# Altium schematic symbol library Schlib1.SchLib: 19 symbols
Pins are listed as number, name and electrical type; pins without a type are passive.

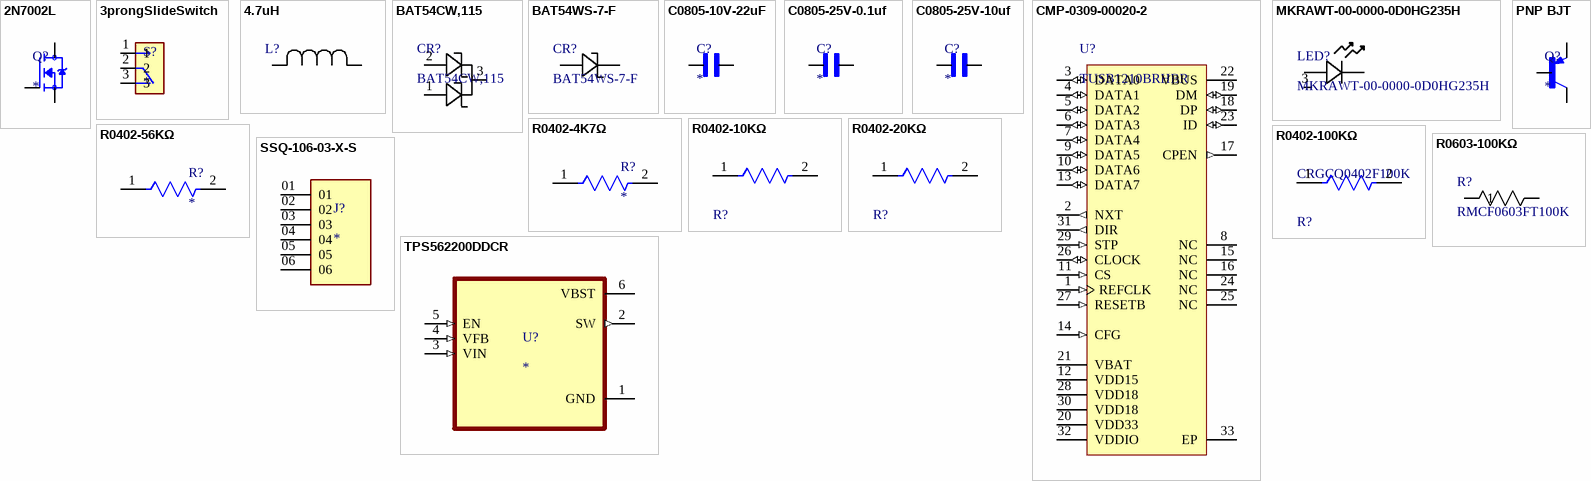
[diagram p0: symbols 2N7002L to TPS562200DDCR]

## 2N7002L
designator Q?
MOSFET,N-Ch,VDSS 60VDC,RDS(ON) 7.5 Ohms,ID+/-115mA,SOT-23 (TO-236),PD 225mW,-55C | ON Semiconductor 2N7002L; MF: onsemi; SnapEDA_Link: https://www.snapeda.com/parts/2N7002L/Onsemi/view-part/?ref=snap; Package: SOT-23-3 ON Semiconductor; Value: *; MP: 2N7002L; Check_prices: https://www.snapeda.com/parts/2N7002L/Onsemi/view-part/?ref=eda
footprint SOT95P240X111-3N
pins: 1 G, 2 S, 3 D

## 3prongSlideSwitch
designator S?
SLIDE SWITCH SPDT T/H ON-ON BBM; MP: OS102011MS2QN1; MF: C&K; SnapEDA_Link: https://www.snapeda.com/parts/OS102011MS2QN1/C%2526K/view-part/?ref=snap; Purchase-URL: https://pricing.snapeda.com/search/part/OS102011MS2QN1/?ref=eda; Value: *; Digi-Key_Part_Number: CKN9565-ND; Check_prices: https://www.snapeda.com/parts/OS102011MS2QN1/C%2526K/view-part/?ref=eda; Package: None
footprint SW_OS102011MS2QN1
pins: 1, 2, 3

## 4.7uH
designator L?
Description; Manufacturer_Name: Bourns Electronics; Manufacturer_Part_Number: SRN6045-4R7Y; Copyright: Copyright (C) 2025 Ultra Librarian. All rights reserved.
pins: 1, 2

## BAT54CW,115
designator CR?
Description; Manufacturer_Name: Nexperia; Copyright: Copyright (C) 2025 Ultra Librarian. All rights reserved.; Manufacturer_Part_Number: BAT54CW,115
footprint DIODE_SOT323_BAT54CW_2P2X1P35_NEX
pins: 1 A1, 2 A2, 3 K1

## BAT54WS-7-F
designator CR?
Diode, Schottky, 30 V, 0.2 A, SOD-323; Manufacturer_Name: Diodes Inc; Copyright: Copyright (C) 2025 Ultra Librarian. All rights reserved.; Manufacturer_Part_Number: BAT54WS-7-F
footprint SOD323_DIO
pins: 1, 2

## C0805-10V-22uF
designator C?
MF: {'manufacturer': u'Taiyo Yuden'}; MP: MSASL219LB5226MTNA01; Package: None; Price: None; Value: *; Availability: Unavailable
footprint CAPC2012X95N
pins: 1, 2

## C0805-25V-0.1uf
designator C?
MF: {'manufacturer': u'Taiyo Yuden'}; MP: KGM21NR71E104KT; Package: None; Price: None; Value: *; Availability: Unavailable
footprint CAPC2012X95N
pins: 1, 2

## C0805-25V-10uf
designator C?
MF: {'manufacturer': u'Taiyo Yuden'}; MP: MSAST219LB5106KTNA01; Package: None; Price: None; Value: *; Availability: Unavailable
footprint CAPC2012X95N
pins: 1, 2

## CMP-0309-00020-2
designator U?, comment TUSB1210BRHBR
USB 2.0 ULPI Transceiver, High Speed, ULPI, +/-2V, -40 to 85 degC, 32-Pin QFN (RHB), Green (RoHS & no Sb/Br); Manufacturer: Texas Instruments; ESD HBM(kV): +/-2; SubFamily: USB Transceiver; ComponentLink1URL: http://www.ti.com/general/docs/lit/getliterature.tsp?genericPartNumber=TUSB1210&fileType=pdf; PartNumber: TUSB1210BRHBR; Mounting Technology: Surface Mount; ComponentLink2URL: http://www.ti.com/litv/pdf/mpqf130c; ComponentLink2Description: Package Specification; USB Speed: High; Code_JEDEC: MO-220; ComponentLink1Description: Datasheet; PackageVersion: revD, Jun-2011; Eco-Plan: Green (RoHS & no Sb/Br); PackageReference: RHB0032E; PackageDescription: 32-Pin Plastic Quad Flat No-Lead, 5 x 5 mm Body, 0.5 mm Pitch, 3.45 x 3.45 mm Exposed Pad; DatasheetVersion: SLLSE09E
footprint RHB0032E_V (QFN, 32-Leads, Body 5x5mm, Pitch 0.5mm, Thermal Pad 3.45x3.45mm)
pins: 1 REFCLK (in) "VDD33 Reference clock input.Tie to GND when pin 26(CLOCK) is required to be Input mode. Connect to square-wave reference clock of amplitude in the range of 3 V to 3. [see datasheet]", 2 NXT (out) "ULPI NXT output signal", 3 DATA0 (io) "ULPI DATA input/output signal 0 synchronized to CLOCK", 4 DATA1 (io) "ULPI DATA input/output signal 1 synchronized to CLOCK", 5 DATA2 (io) "ULPI DATA input/output signal 2 synchronized to CLOCK", 6 DATA3 (io) "ULPI DATA input/output signal 3 synchronized to CLOCK", 7 DATA4 (io) "ULPI DATA input/output signal 4 synchronized to CLOCK", 8 NC "No connect", 9 DATA5 (io) "ULPI DATA input/output signal 6 synchronized to CLOCK", 10 DATA6 (io) "ULPI DATA input/output signal 6 synchronized to CLOCK", 11 CS (in) "Active-high chip select pin. When low the IC is in power down and ULPIbus is tri-stated. When high normal operation. Tie to VDDIO if unused.", 12 VDD15 (power) "1.5-V internal LDO output. Connect to external filtering capacitor.", 13 DATA7 (io) "ULPI DATA input/output signal 7 synchronized to CLOCK", 14 CFG (in) "REFCLK clock frequency configuration pin. Two frequencies are IO supported: 19.2 MHz when 0, or 26 MHz when 1", 15 NC "No connect", 16 NC "No connect", 17 CPEN (out) "CMOS active-high digital output control of external 5V VBUS supply", 18 DP (io) "DP pin of the USB connector", 19 DM (io) "DM pin of the USB connector", 20 VDD33 (power) "3.3-V internal LDO output. Connect to external filtering capacitor", 21 VBAT (power) "Input supply voltage or battery source", 22 VBUS (power) "VBUS pin of the USB connector", 23 ID (io) "Identification (ID) pin of the USB connector", 24 NC "No connect", 25 NC "No connect", 26 CLOCK (io) "ULPI 60 MHz clock on which ULPI data is synchronized.Two modes are possible:Input Mode: CLOCK defaults as an input. [see datasheet]", 27 RESETB (in) "When low, all digital logic including registers are reset to their default values, and ULPI bus is tri-stated. When high, normal USB operation.", 28 VDD18 (power) "External 1.8-V supply input. Connect to external filtering capacitor.", 29 STP (in) "ULPI STP input signal", 30 VDD18 (power) "External 1.8-V supply input. Connect to external filtering capacitor", 31 DIR (out) "ULPI DIR output signal", 32 VDDIO (power) "External 1.8V supply input for digital I/Os. Connect to external filtering capacitor", 33 EP (power) ""Exposed Thermal pad"

## MKRAWT-00-0000-0D0HG235H
designator LED?
Description; Manufacturer_Name: Cree LED; Copyright: Copyright (C) 2025 Ultra Librarian. All rights reserved.; Manufacturer_Part_Number: MKRAWT-00-0000-0D0HG235H
footprint LED_XLamp_MK-R_CRW
pins: 1, 2, 3 heatDissipation

## PNP BJT
designator Q?
TRANS PNP 40V 0.2A SOT23-3; MF: onsemi; MP: MMBT3906LT1G; SnapEDA_Link: https://www.snapeda.com/parts/MMBT3906LT1G/Onsemi/view-part/?ref=snap; Package: SOT-23-3 ON Semiconductor; Value: *; Check_prices: https://www.snapeda.com/parts/MMBT3906LT1G/Onsemi/view-part/?ref=eda
footprint SOT95P240X111-3N
pins: 1 B, 2 E, 3 C

## R0402-4K7Ω
designator R?
<a href="https://pricing.snapeda.com/parts/RC0402JR-074K7L/Yageo/view-part?ref=eda">Check availability</a>; MF: {'manufacturer': u'YAGEO'}; Package: None; Price: None; Value: *; MP: RC0402JR-074K7L; Availability: Unavailable
footprint FP-CRGCQ0402-IPC_A
pins: 1, 2

## R0402-10KΩ
designator R?
Resistance: 10KΩ; Tolerance: 0.01; Voltage Rating: 50V; Power Rating: 0.0625W; Temperature Coefficient: ±100ppm/°C; Value: 10KΩ; Ambient Temperature Range High: +70°C; Series: CRGCQ; Temperature: -55°C to +155°C; Temperature Range Low: -55°C; ComponentLink2Description: Datasheet; Category: Res; Temperature Range High: +155°C; Automotive: Yes; Device Class L2: Resistors; Height: 0.4mm; Ipc Land Pattern Name: RESC10050X35; Composition: Thick Film; Device Class L1: Passive Components; Device Class L3: Chip SMD Resistors; RoHS: TRUE; Lead Free: Yes
footprint FP-CRGCQ0402-IPC_A
pins: 1, 2

## R0402-20KΩ
designator R?
Resistance: 20KΩ; Tolerance: 0.01; Voltage Rating: 50V; Power Rating: 0.0625W; Temperature Coefficient: ±100ppm/°C; Value: 20KΩ; Ambient Temperature Range High: +70°C; Temperature: -55°C to +155°C; Temperature Range Low: -55°C; ComponentLink2Description: Datasheet; Category: Res; Temperature Range High: +155°C; Automotive: Yes; Device Class L2: Resistors; Height: 0.4mm; Ipc Land Pattern Name: RESC10050X35; Composition: Thick Film; Device Class L1: Passive Components; Device Class L3: Chip SMD Resistors; RoHS: TRUE; Lead Free: Yes
footprint FP-CRGCQ0402-IPC_A
pins: 1, 2

## R0402-56KΩ
designator R?
<a href="https://pricing.snapeda.com/parts/RC0402JR-074K7L/Yageo/view-part?ref=eda">Check availability</a>; MF: {'manufacturer': u'YAGEO'}; MP: ERA-2AEB563X; Package: None; Price: None; Value: *; Availability: Unavailable
footprint FP-CRGCQ0402-IPC_A
pins: 1, 2

## R0402-100KΩ
designator R?, comment CRGCQ0402F100K
CRGCQ0402 100KΩ 1% ±100ppm/°C 50V; Manufacturer: TE Connectivity; Tolerance: 0.01; Power Rating: 0.0625W; Resistance: 100KΩ; Ambient Temperature Range High: +70°C; Series: CRGCQ; Temperature: -55°C to +155°C; Temperature Range Low: -55°C; ComponentLink2Description: Datasheet; Category: Res; Temperature Range High: +155°C; Automotive: Yes; Device Class L2: Resistors; Height: 0.4mm; Ipc Land Pattern Name: RESC10050X35; Voltage Rating: 50V; ComponentLink2URL: https://www.te.com/commerce/DocumentDelivery/DDEController?Action=showdoc&DocId=Data+Sheet%7F1773204-3%7F1%7Fpdf%7FEnglish%7FENG_DS_1773204-3_1.pdf%7F4-2176347-1150; Composition: Thick Film; Device Class L1: Passive Components; Device Class L3: Chip SMD Resistors; RoHS: TRUE; Temperature Coefficient: ±100ppm/°C; Lead Free: Yes; Value: 100KΩ; Manufacturer Part Number: CRGCQ0402F100K; Octopart: https://octopart.com/crgcq0402f100k-te+connectivity-91017930; Package: CRGCQ0402
footprint FP-CRGCQ0402-IPC_A
pins: 1, 2

## R0603-100KΩ
designator R?, comment RMCF0603FT100K
Description; Manufacturer_Name: Stackpole International; Copyright: Copyright (C) 2025 Ultra Librarian. All rights reserved.; Manufacturer_Part_Number: RMCF0603FT100K
footprint STA_RMCF0603_STP
pins: 1, 2

## SSQ-106-03-X-S
designator J?
SSQ - Samtec 2.54mm Square Tail Single Row Socket Strip 8.5mm Profile - Fast Stock; MF: Samtec Inc.; MP: SSQ-106-03-T-S; SnapEDA_Link: https://www.snapeda.com/parts/SSQ-106-03-T-S/Samtec+Inc./view-part/?ref=snap; Package: None; Value: *; Check_prices: https://www.snapeda.com/parts/SSQ-106-03-T-S/Samtec+Inc./view-part/?ref=eda
footprint SAMTEC_SSQ-106-03-X-S
pins: 01, 02, 03, 04, 05, 06

## TPS562200DDCR
designator U?
17 V Input, 2A Synchronous Step-Down Regulator in SOT-23 with Advanced Eco-modeâ„¢; MF: Texas Instruments; MP: TPS562200DDCR; SnapEDA_Link: https://www.snapeda.com/parts/TPS562200DDCR/Texas+Instruments/view-part/?ref=snap; Package: SOT-23-THN-6 Texas Instruments; Value: *; Check_prices: https://www.snapeda.com/parts/TPS562200DDCR/Texas+Instruments/view-part/?ref=eda
footprint SOT95P280X110-6N
pins: 1 GND (power), 2 SW (out), 3 VIN (in), 4 VFB (in), 5 EN (in), 6 VBST (power)